# Altium integrated library connectors.IntLib: 12 symbols
Pins are listed as number, name and electrical type; pins without a type are passive.

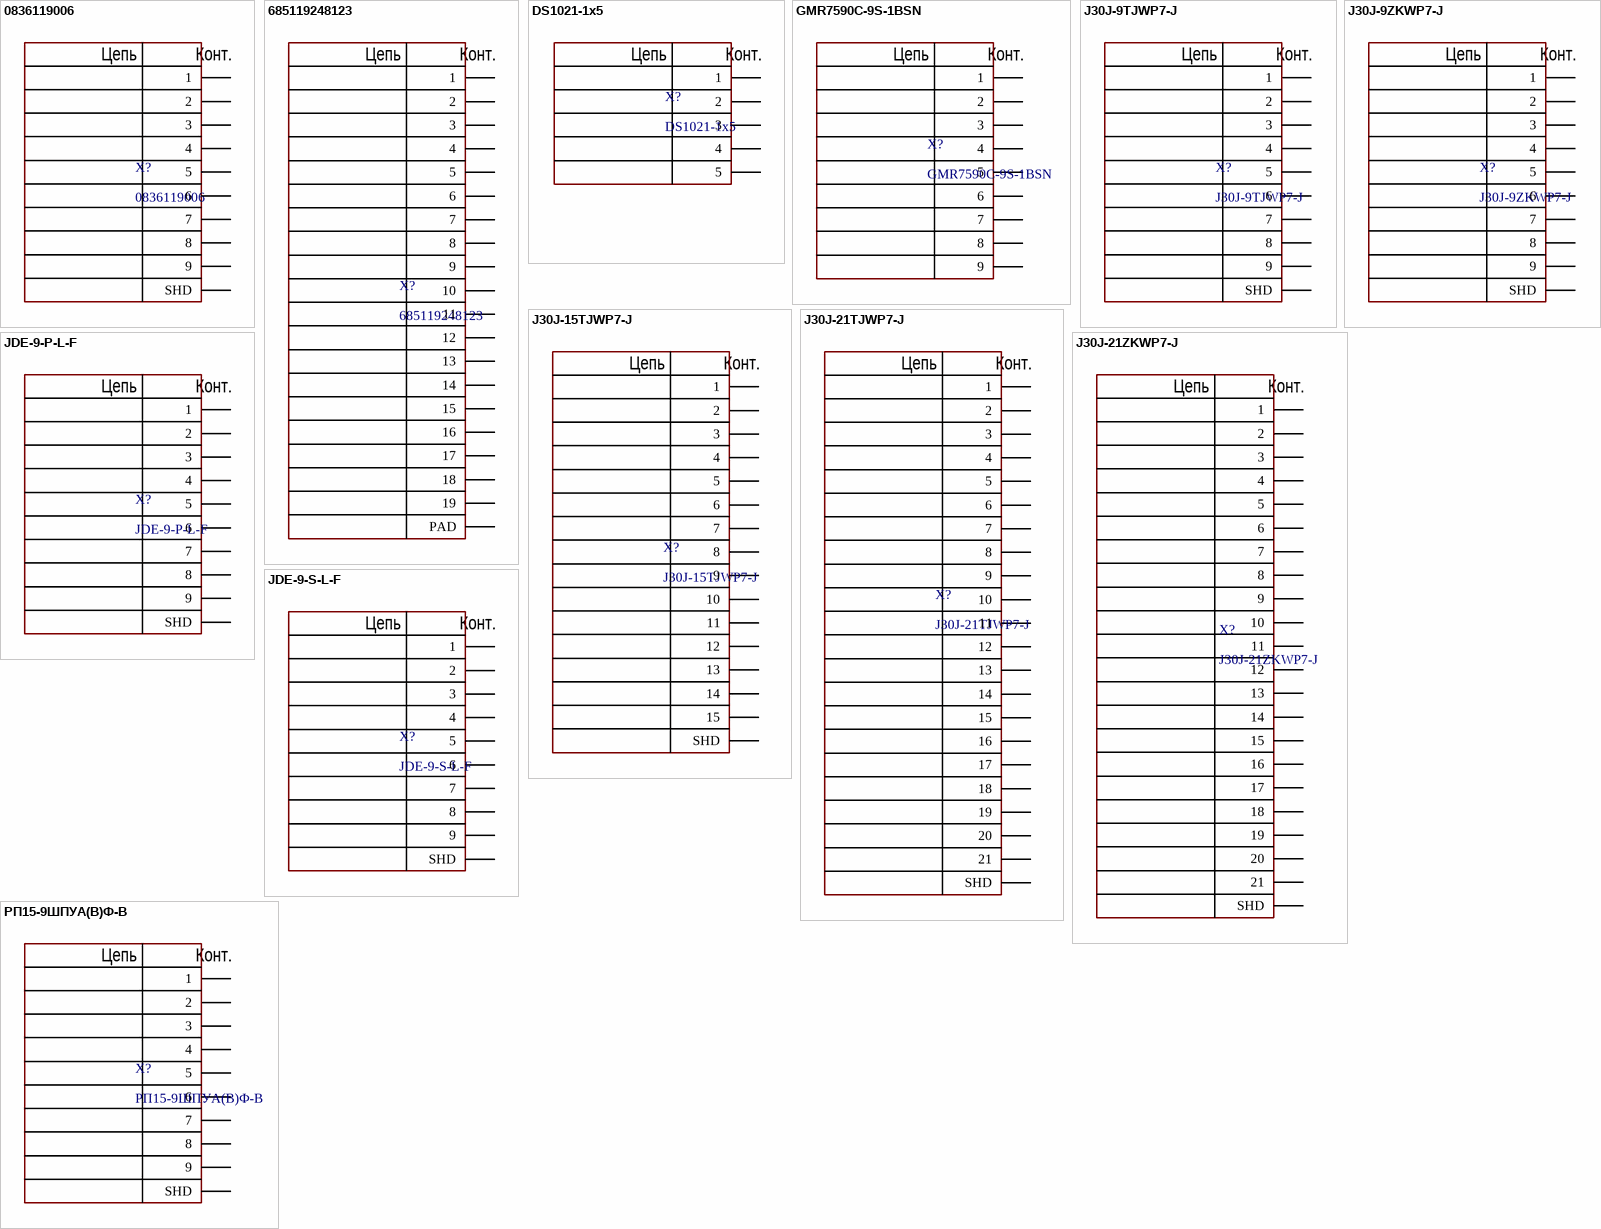
[diagram p0: symbols 0836119006 to РП15-9ШПУА(B)Ф-В]

## 0836119006
designator X?
Conn.; D-Sub; Plug; 1.27mm Pitch; 9 Cir.; PCB Mnt.; Rt. Angle; Commercial Micro D; Manufacturer: Molex; Supplier 1: https://www.chipdip.ru/product0/8025490520; Manufacturer Part Number: 0836119006; RoHS: Yes; Stock 1: 851; Pricing 1: 1=13,16, 10=12,87, 25=10,61, 50=10,67, 100=9,66, 250=9,65, 1000=9,65, 1092=9,42, 10000=9,65 (USD); Supplier Part Number 1: 538-83611-9006
footprint MICRO-D9
pins: 1, 2, 3 (power), 4 (power), 5 (power), 6 (power), 7 (power), 8 (power), 9 (power), SHD (power)
text: Цепь; Конт.

## 685119248123
designator X?
WR-COM_HDMI_Micro Type D_Horizontal_SMT; Manufacturer: Wurth Electronics; Body Material: Brass; Connector Type: HDMI; Number of Contacts: 19; Gender: Receptacle; Mating Cycles: 5000; Shielding: Shielded; Number of Ports: 1; Supplier: Farnell; Supplier Part Number: 2520186; Manufacturer Part Number: 685119248123; RoHS: Yes; Category: Connectors; Stock: 1361; Pricing: 1=3,17, 10=2,41, 100=2,19, 250=2,13, 500=2,06, 1000=1,7 (EUR); Mounting Technology: Surface Mount,Horizontal,Through Hole; Contact Plating: Gold; Insulation Color: Black; Min Operating Temperature: -40°C; Max Operating Temperature: 85°C; Package Quantity: 1; Packaging: Cut Tape; Features: Shielded; Series: WR-COM; Termination: Solder; RoHS Compliant: Yes; Flammability Rating: UL94 V-0; Reach SVHC Compliant: Unknown; ComponentLink1URL: https://datasheet.ciiva.com/29660/685119248123-29660258.pdf?src-supplier=Digikey; ComponentLink1Description: https://datasheet.ciiva.com/29660/685119248123-29660258.pdf?src-supplier=Digikey
footprint MICROHDMI
pins: 1, 2, 3 (power), 4 (power), 5 (power), 6 (power), 7 (power), 8 (power), 9 (power), 10 (power), 11 (power), 12 (power), 13 (power), 14 (power), 15 (power), 16 (power), 17 (power), 18 (power), 19 (power), PAD (power)
text: Цепь; Конт.

## DS1021-1x5
designator X?
Штыри однорядные 1x5 конт. шаг 2.54 мм; Supplier 1: https://www.chipdip.ru/product/pls-5
footprint DS1021-1x5
pins: 1, 2, 3, 4, 5
text: Цепь; Конт.

## GMR7590C-9S-1BSN
designator X?
MICRO-D-9 пиновая угловая вилка (1.905мм x 1.905мм); Manufacturer Part Number: GMR7590C-9S-1BSN
footprint GMR7590C-9S-1BSN
pins: 1, 2, 3 (power), 4 (power), 5 (power), 6 (power), 7 (power), 8 (power), 9 (power)
text: Цепь; Конт.

## J30J-9TJWP7-J
designator X?
MICRO-D-9 пиновая угловая вилка (1.27мм x 2.54мм); Manufacturer Part Number: J30J-9TJWP7-J
footprint MICRO-D9F_1.27_2.54
pins: 1, 2, 3 (power), 4 (power), 5 (power), 6 (power), 7 (power), 8 (power), 9 (power), SHD (power)
text: Цепь; Конт.

## J30J-9ZKWP7-J
designator X?
MICRO-D-9 пиновая угловая розетка (1.27мм x 2.54мм); Manufacturer Part Number: J30J-9ZKWP7-J
footprint MICRO-D9M_1.27_2.54
pins: 1, 2, 3 (power), 4 (power), 5 (power), 6 (power), 7 (power), 8 (power), 9 (power), SHD (power)
text: Цепь; Конт.

## J30J-15TJWP7-J
designator X?
MICRO-D-15 пиновая угловая вилка (1.27мм x 2.54мм); Manufacturer Part Number: J30J-15TJWP7-J
footprint MICRO-D15M_1.27_2.54
pins: 1, 2, 3 (power), 4 (power), 5 (power), 6 (power), 7 (power), 8 (power), 9 (power), 10 (power), 11 (power), 12 (power), 13 (power), 14 (power), 15 (power), SHD (power)
text: Цепь; Конт.

## J30J-21TJWP7-J
designator X?
MICRO-D-21 пиновая угловая вилка (1.27мм x 2.54мм); Manufacturer Part Number: J30J-21TJWP7-J
footprint MICRO-D21M_1.27_2.54
pins: 1, 2, 3 (power), 4 (power), 5 (power), 6 (power), 7 (power), 8 (power), 9 (power), 10 (power), 11 (power), 12 (power), 13 (power), 14 (power), 15 (power), 16 (power), 17 (power), 18 (power), 19 (power), 20 (power), 21 (power), SHD (power)
text: Цепь; Конт.

## J30J-21ZKWP7-J
designator X?
MICRO-D-21 пиновая угловая розетка (1.27мм x 2.54мм); Manufacturer Part Number: J30J-21ZKWP7-J; Circuit 1: *; Circuit 2: *; Circuit 3: *; Circuit 4: *; Circuit 5: *; Circuit 6: *; Circuit 7: *; Circuit 8: *; Circuit 9: *; Circuit 10: *; Circuit 11: *; Circuit 12: *; Circuit 13: *; Circuit 14: *; Circuit 15: *; Circuit 16: *; Circuit 17: *; Circuit 18: *; Circuit 19: *; Circuit 20: *; Circuit 21: *
footprint J30J-21ZKWP7-J
pins: 1, 2, 3 (power), 4 (power), 5 (power), 6 (power), 7 (power), 8 (power), 9 (power), 10 (power), 11 (power), 12 (power), 13 (power), 14 (power), 15 (power), 16 (power), 17 (power), 18 (power), 19 (power), 20 (power), 21 (power), SHD (power)
text: Цепь; Конт.

## JDE-9-P-L-F
designator X?
DSUB - 9 пиновая угловая вилка с зажимами; Manufacturer Part Number: JDE-9-P-L-F
footprint DSUB9-2.74F
pins: 1, 2, 3 (power), 4 (power), 5 (power), 6 (power), 7 (power), 8 (power), 9 (power), SHD (power)
text: Цепь; Конт.

## JDE-9-S-L-F
designator X?
DSUB - 9 пиновая угловая розетка с зажимами; Manufacturer Part Number: JDE-9-S-L-F
footprint DSUB9-2.74M
pins: 1, 2, 3 (power), 4 (power), 5 (power), 6 (power), 7 (power), 8 (power), 9 (power), SHD (power)
text: Цепь; Конт.

## РП15-9ШПУА(B)Ф-В
designator X?
DSUB - 9 пиновая угловая вилка с зажимами; Manufacturer: Завод Атлант; Part Number: РП15-9ШПУА(B)Ф-В; Supplier 1: https://заводатлант26.рф/
footprint DSUB9-2.8
pins: 1, 2, 3 (power), 4 (power), 5 (power), 6 (power), 7 (power), 8 (power), 9 (power), SHD (power)
text: Цепь; Конт.